# EAGLE library part ATTINY414-SSFR (library ATTINY414-SSFR)
MICROCHIP - ATTINY414-SSFR - MCU, 8BIT, AVR, 20MHZ, SOIC-14 Source: Datasheet <https://componentsearchengine.com/Datasheets/2/ATTINY414-SSFR.pdf>
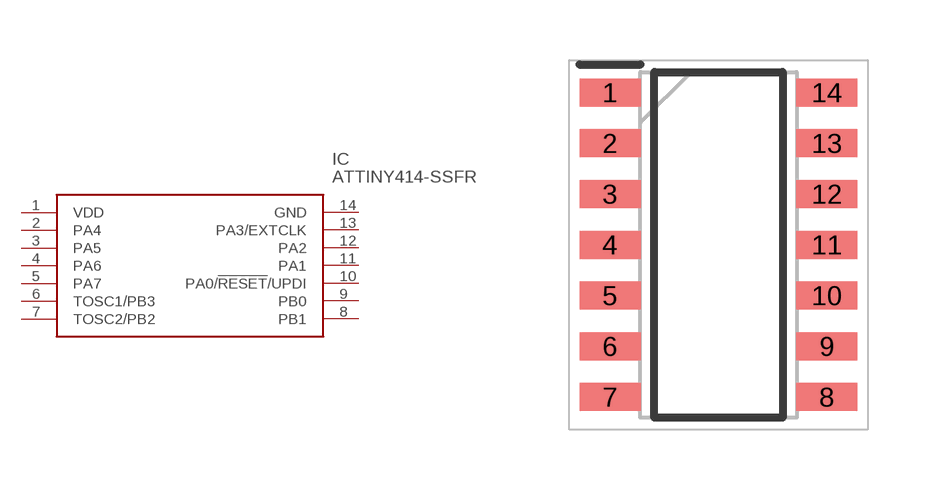
[diagram p0: symbol with the pads of SOIC127P600X175-14N; footprint SOIC127P600X175-14N]

Designator prefix IC

## ATTINY414-SSFR (Description: MICROCHIP - ATTINY414-SSFR - MCU, 8BIT, AVR, 20MHZ, SOIC-14; Height: 1.75mm; Manufacturer_Name: Microchip; Manufacturer_Part_Number: ATTINY414-SSFR; Mouser_Part_Number: 556-ATTINY414-SSFR; Mouser_Price-Stock: https://www.mouser.co.uk/ProductDetail/Microchip-Technology-Atmel/ATTINY414-SSFR?qs=1mbolxNpo8d5mqJnKklqow%3D%3D)  [SOIC127P600X175-14N]
1  VDD  pwr
2  PA4
3  PA5
4  PA6
5  PA7
6  TOSC1/PB3
7  TOSC2/PB2
8  PB1
9  PB0
10  PA0/!RESET!/UPDI  in
11  PA1
12  PA2
13  PA3/EXTCLK
14  GND  pwr

## Footprint SOIC127P600X175-14N (pad centres in mm)
ATTINY414-SSFR
smd 1.525 x 0.7: 1 -2.712,3.81; 2 -2.712,2.54; 3 -2.712,1.27; 4 -2.712,0; 5 -2.712,-1.27; 6 -2.712,-2.54; 7 -2.712,-3.81; 8 2.712,-3.81; 9 2.712,-2.54; 10 2.712,-1.27; 11 2.712,0; 12 2.712,1.27; 13 2.712,2.54; 14 2.712,3.81